# EAGLE library part SI1133 (library Octanis1)
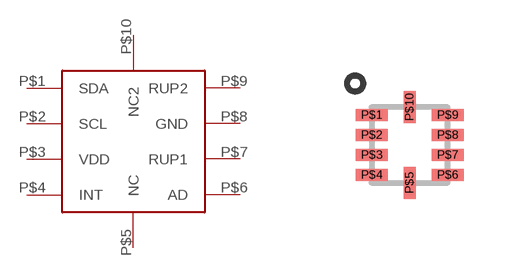
[diagram p3: symbol with the pads of DFN2X2; footprint DFN2X2]

Designator prefix -

## SI1133  [DFN2X2]
P$1  SDA
P$2  SCL
P$3  VDD
P$4  INT
P$5  NC
P$6  AD
P$7  RUP1
P$8  GND
P$9  RUP2
P$10  NC2

## Footprint DFN2X2 (pad centres in mm)
smd 0.8 x 0.3: P$1 -0.95,0.75; P$2 -0.95,0.25; P$3 -0.95,-0.25; P$4 -0.95,-0.75; P$6 0.95,-0.75; P$7 0.95,-0.25; P$8 0.95,0.25; P$9 0.95,0.75
smd 0.3 x 0.8: P$5 0,-0.95; P$10 0,0.95